# Altium footprint library RES-0603.PcbLib: 1 footprints
Each footprint in its own frame and in the unit in brackets; x right, y up, seen from the top. Pads: shape width x height; smd on the part's side, far side on the other; paste and mask are expansions set on the pad; w line width, h text height; cw(c..) or ccw(c..) is an arc to the next point about the centre after c.
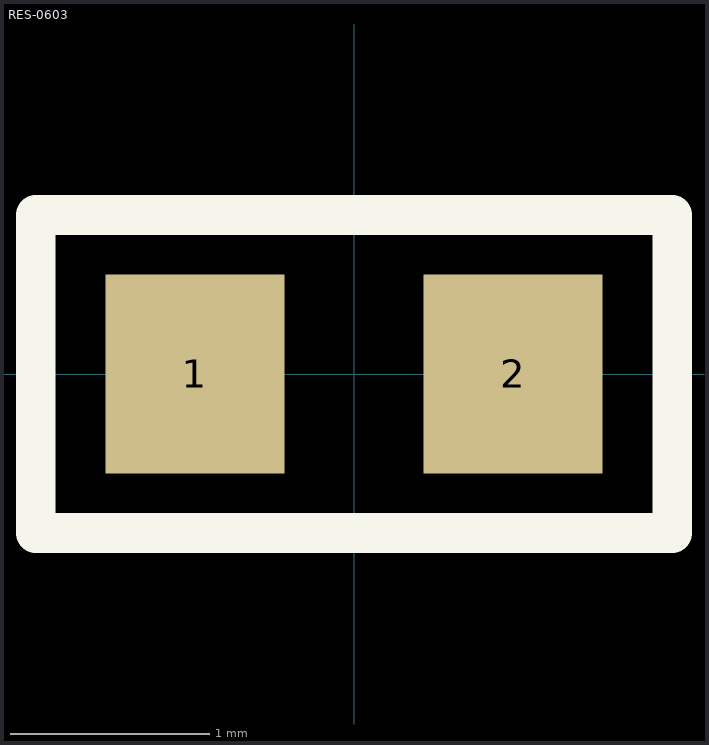
[diagram p0: the footprint, top view; thin cyan lines are the x and y axes]

## RES-0603 [mm]
pads (2):
  rect 0.9x1 smd: 1(-0.8,0) 2(0.8,0)
Top Overlay:
  lines w0.2: -1.6,-0.8 1.6,-0.8 1.6,0.8 -1.6,0.8 -1.6,-0.8
Top Assembly:
  lines w0.1: -1.6,-0.8 1.6,-0.8 1.6,0.8 -1.6,0.8 -1.6,-0.8
Top Courtyard:
  lines w0.05: -1.6,-0.8 -1.6,0.8 1.6,0.8 1.6,-0.8 -1.6,-0.8
Top Designator:
  text ".Designator" at -2.999,-0.2 h0.6
3D body "0603 resistor.STEP": height 0.45, standoff 0, extent -0.8,-0.425 0.8,0.375